# Altium footprint library PCB1.PcbLib: 1 footprints
Each footprint in its own frame and in the unit in brackets; x right, y up, seen from the top. Pads: shape width x height; smd on the part's side, far side on the other; paste and mask are expansions set on the pad; w line width, h text height; cw(c..) or ccw(c..) is an arc to the next point about the centre after c.
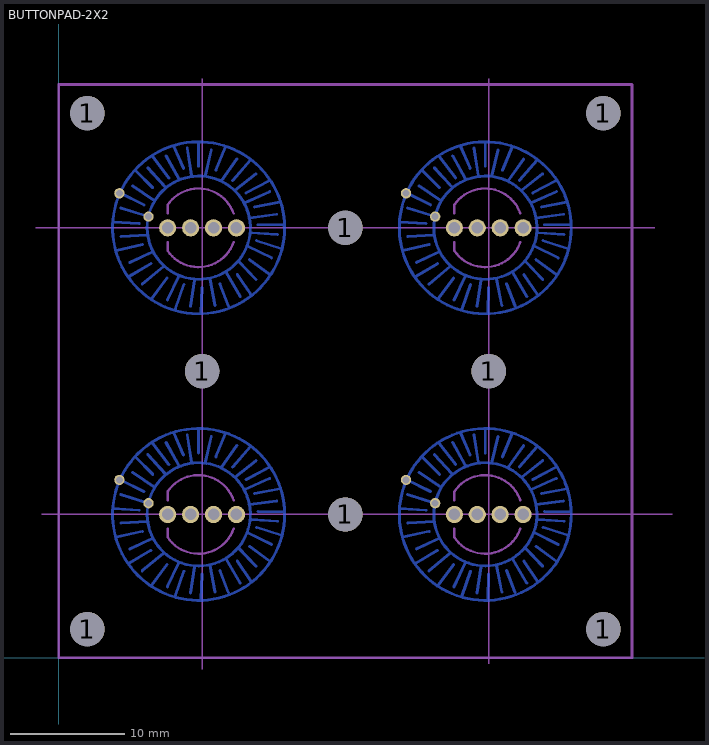
[diagram p0: the footprint, top view; thin cyan lines are the x and y axes]

## BUTTONPAD-2X2 [mm]
pads (32):
  round 3 hole 3: 1(2.5,2.5) 1(2.5,47.5) 1(12.5,25) 1(25,12.5) 1(25,37.5) 1(37.5,25) 1(47.5,2.5) 1(47.5,47.5)
  round 1.5 hole 1: BLU1(13.5,37.5) BLU2(38.5,37.5) BLU3(13.5,12.5) BLU4(38.5,12.5) GRN1(15.5,37.5) GRN2(40.5,37.5) GRN3(15.5,12.5) GRN4(40.5,12.5) RED1(9.5,37.5) RED2(34.5,37.5) RED3(9.5,12.5) RED4(34.5,12.5) VCC1(11.5,37.5) VCC2(36.5,37.5) VCC3(11.5,12.5) VCC4(36.5,12.5)
  round 0.9 hole 0.6: SIG1(5.288,15.513) SIG2(7.828,13.481) SIG3(30.288,15.513) SIG4(32.828,13.481) SIG5(5.288,40.513) SIG6(7.828,38.481) SIG7(30.288,40.513) SIG8(32.828,38.481)
Bottom Layer:
  circle w0.254: c12.2,37.5 r7.5
  circle w0.254: c37.2,37.5 r7.5
  circle w0.254: c12.2,12.5 r7.5
  circle w0.254: c37.2,12.5 r7.5
  lines w0.254: 4.72,13.01 7.02,12.87 ; 4.72,38.01 7.02,37.87 ; 5.04,10.52 7.31,11.03 ; 5.04,35.52 7.31,36.03 ; 5.36,15.54 7.42,14.5 ; 5.36,40.54 7.42,39.5 ; 5.41,14.24 7.74,13.5 ; 5.41,39.24 7.74,38.5 ; 5.44,11.75 7.74,11.89 ; 5.44,36.75 7.74,36.89 ; 6.13,8.25 8.03,9.37 ; 6.13,33.25 8.03,34.37 ; 6.19,9.48 8.19,10.42 ; 6.19,34.48 8.19,35.42 ; 6.43,16.16 8.35,14.88 ; 6.43,41.16 8.35,39.88 ; 6.7,17.5 8.2,16 ; 6.7,42.5 8.2,41 ; 7.28,7.58 9.13,9.13 ; 7.28,32.58 9.13,34.13 ; 7.76,17.74 9.29,16.05 ; 7.76,42.74 9.29,41.05 ; 8.11,6.33 9.44,8.13 ; 8.11,31.33 9.44,33.13 ; 8.19,18.7 9.61,16.86 ; 8.19,43.7 9.61,41.86 ; 9.35,18.78 10.46,16.8 ; 9.35,43.78 10.46,41.8 ; 9.47,6.19 10.46,8.28 ; 9.47,31.19 10.46,33.28 ; 10.04,19.61 10.88,17.68 ; 10.04,44.61 10.88,42.68 ; 10.17,5.42 10.91,7.55 ; 10.17,30.42 10.91,32.55 ; 11.21,19.45 11.59,17.07 ; 11.21,44.45 11.59,42.07 ; 11.49,5.66 11.83,7.93 ; 11.49,30.66 11.83,32.93 ; 12.2,17.87 12.2,19.96 ; 12.2,42.87 12.2,44.96 ; 12.42,5.06 12.49,7.29 ; 12.42,30.06 12.49,32.29 ; 12.79,17.12 13.3,19.29 ; 12.79,42.12 13.3,44.29 ; 13.19,8.04 13.64,5.74 ; 13.19,33.04 13.64,30.74 ; 13.7,17.52 14.53,19.53 ; 13.7,42.52 14.53,44.53 ; 14.05,7.62 14.79,5.69 ; 14.05,32.62 14.79,30.69 ; 14.18,16.59 15.54,18.51 ; 14.18,41.59 15.54,43.51 ; 14.61,8.6 15.83,6.51 ; 14.61,33.6 15.83,31.51 ; 15.17,16.64 16.72,18.41 ; 15.17,41.64 16.72,43.41 ; 15.38,15.76 17.21,17.2 ; 15.38,40.76 17.21,42.2 ; 15.57,8.44 16.74,6.7 ; 15.57,33.44 16.74,31.7 ; 15.7,9.56 17.21,7.98 ; 15.7,34.56 17.21,32.98 ; 16.18,14.66 18.4,15.65 ; 16.18,39.66 18.4,40.65 ; 16.34,15.55 18.35,16.62 ; 16.34,40.55 18.35,41.62 ; 16.5,10.9 18.56,9.88 ; 16.5,35.9 18.56,34.88 ; 16.61,13.36 16.629,13.362 ; 16.61,38.36 16.629,38.363 ; 16.64,9.72 18.37,8.44 ; 16.64,34.72 18.37,33.44 ; 16.8,12.07 19.07,11.91 ; 16.8,37.07 19.07,36.91 ; 17.09,14.32 19.31,14.74 ; 17.09,39.32 19.31,39.74 ; 17.25,11.38 19.42,10.68 ; 17.25,36.38 19.42,35.68 ; 17.38,12.77 19.58,12.74 ; 17.38,37.77 19.58,37.74 ; 19.01,13.68 16.629,13.362 ; 19.01,38.68 16.629,38.363 ; 29.72,13.01 32.02,12.87 ; 29.72,38.01 32.02,37.87 ; 30.04,10.52 32.31,11.03 ; 30.04,35.52 32.31,36.03 ; 30.36,15.54 32.42,14.5 ; 30.36,40.54 32.42,39.5 ; 30.41,14.24 32.74,13.5 ; 30.41,39.24 32.74,38.5 ; 30.44,11.75 32.74,11.89 ; 30.44,36.75 32.74,36.89 ; 31.13,8.25 33.03,9.37 ; 31.13,33.25 33.03,34.37 ; 31.19,9.48 33.19,10.42 ; 31.19,34.48 33.19,35.42 ; 31.43,16.16 33.35,14.88 ; 31.43,41.16 33.35,39.88 ; 31.7,17.5 33.2,16 ; 31.7,42.5 33.2,41 ; 32.28,7.58 34.13,9.13 ; 32.28,32.58 34.13,34.13 ; 32.76,17.74 34.29,16.05 ; 32.76,42.74 34.29,41.05 ; 33.11,6.33 34.44,8.13 ; 33.11,31.33 34.44,33.13 ; 33.19,18.7 34.61,16.86 ; 33.19,43.7 34.61,41.86 ; 34.35,18.78 35.46,16.8 ; 34.35,43.78 35.46,41.8 ; 34.47,6.19 35.46,8.28 ; 34.47,31.19 35.46,33.28 ; 35.04,19.61 35.88,17.68 ; 35.04,44.61 35.88,42.68 ; 35.17,5.42 35.91,7.55 ; 35.17,30.42 35.91,32.55 ; 36.21,19.45 36.59,17.07 ; 36.21,44.45 36.59,42.07 ; 36.49,5.66 36.83,7.93 ; 36.49,30.66 36.83,32.93 ; 37.2,17.87 37.2,19.96 ; 37.2,42.87 37.2,44.96 ; 37.42,5.06 37.49,7.29 ; 37.42,30.06 37.49,32.29 ; 37.79,17.12 38.3,19.29 ; 37.79,42.12 38.3,44.29 ; 38.19,8.04 38.64,5.74 ; 38.19,33.04 38.64,30.74 ; 38.7,17.52 39.53,19.53 ; 38.7,42.52 39.53,44.53 ; 39.05,7.62 39.79,5.69 ; 39.05,32.62 39.79,30.69 ; 39.18,16.59 40.54,18.51 ; 39.18,41.59 40.54,43.51 ; 39.61,8.6 40.83,6.51 ; 39.61,33.6 40.83,31.51 ; 40.17,16.64 41.72,18.41 ; 40.17,41.64 41.72,43.41 ; 40.38,15.76 42.21,17.2 ; 40.38,40.76 42.21,42.2 ; 40.57,8.44 41.74,6.7 ; 40.57,33.44 41.74,31.7 ; 40.7,9.56 42.21,7.98 ; 40.7,34.56 42.21,32.98 ; 41.18,14.66 43.4,15.65 ; 41.18,39.66 43.4,40.65 ; 41.34,15.55 43.35,16.62 ; 41.34,40.55 43.35,41.62 ; 41.5,10.9 43.56,9.88 ; 41.5,35.9 43.56,34.88 ; 41.61,13.36 41.629,13.362 ; 41.61,38.36 41.629,38.363 ; 41.64,9.72 43.37,8.44 ; 41.64,34.72 43.37,33.44 ; 41.8,12.07 44.07,11.91 ; 41.8,37.07 44.07,36.91 ; 42.09,14.32 44.31,14.74 ; 42.09,39.32 44.31,39.74 ; 42.25,11.38 44.42,10.68 ; 42.25,36.38 44.42,35.68 ; 42.38,12.77 44.58,12.74 ; 42.38,37.77 44.58,37.74 ; 44.01,13.68 41.629,13.362 ; 44.01,38.68 41.629,38.363 ; 16.629,13.362 cw(c12.21,12.51) 12.21,8.01 cw(c12.21,12.51) 16.629,13.362 ; 16.629,38.363 cw(c12.21,37.51) 12.21,33.01 cw(c12.21,37.51) 16.629,38.363 ; 41.629,13.362 cw(c37.21,12.51) 37.21,8.01 cw(c37.21,12.51) 41.629,13.362 ; 41.629,38.363 cw(c37.21,37.51) 37.21,33.01 cw(c37.21,37.51) 41.629,38.363
Bottom Solder:
  drawing of 168 lines, arcs and shapes, not listed
Mechanical 2:
  text "C1" at 11.75,39.5 h1.57
  text "C2" at 36.75,39.5 h1.57
  text "C3" at 11.75,14.5 h1.57
  text "C4" at 36.75,14.25 h1.57
Mechanical 3:
  lines w0.203: 9.5,11.25 9.5,10.5 ccw(c12.188,12.312) 15.25,11.25 ; 9.5,13.75 9.5,14.5 cw(c12.187,12.688) 15.25,13.75 ; 9.5,36.25 9.5,35.5 ccw(c12.187,37.313) 15.25,36.25 ; 9.5,38.75 9.5,39.5 cw(c12.187,37.688) 15.25,38.75 ; 34.5,11.25 34.5,10.5 ccw(c37.188,12.313) 40.25,11.25 ; 34.5,13.75 34.5,14.5 cw(c37.188,12.688) 40.25,13.75 ; 34.5,36.25 34.5,35.5 ccw(c37.188,37.313) 40.25,36.25 ; 34.5,38.75 34.5,39.5 cw(c37.188,37.688) 40.25,38.75
  lines w0.254: 0,0 0,50 50,50 50,0 0,0
Mechanical 16:
  lines w0.127: -2,37.5 52,37.5 ; -1.5,12.5 53.5,12.5 ; 12.5,-1 12.5,50.5 ; 37.5,-0.5 37.5,50.5